# Altium footprint library Bluetooth_Controlled_Led_Matrix_Design.PcbLib: 1 footprints
Each footprint in its own frame and in the unit in brackets; x right, y up, seen from the top. Pads: shape width x height; smd on the part's side, far side on the other; paste and mask are expansions set on the pad; w line width, h text height; cw(c..) or ccw(c..) is an arc to the next point about the centre after c.
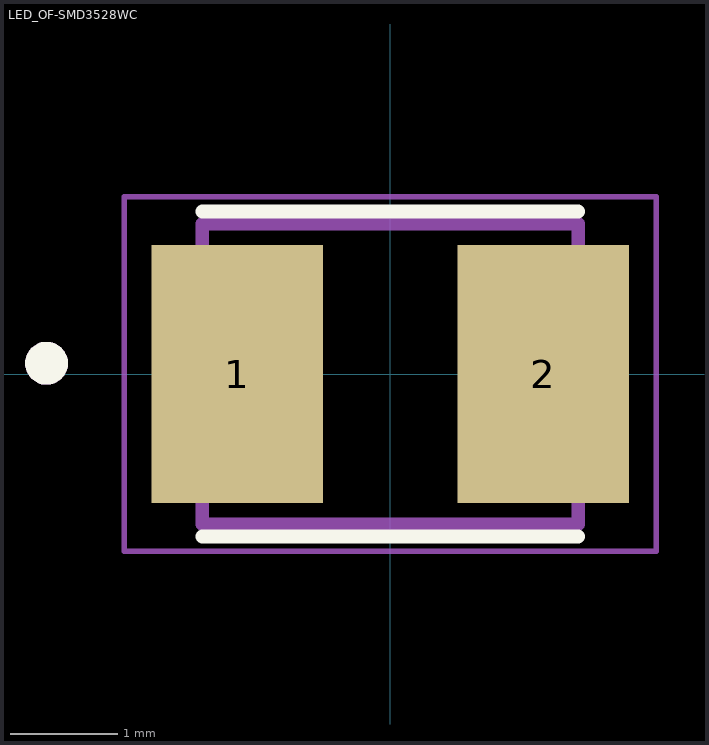
[diagram p0: the footprint, top view; thin cyan lines are the x and y axes]

## LED_OF-SMD3528WC [mm]
pads (2):
  rect 1.6x2.4 smd: 1(-1.425,0) 2(1.425,0)
Top Overlay:
  circle w0.2: c-3.2,0.1 r0.1
  lines w0.127: -1.75,-1.513 1.75,-1.513 ; -1.75,1.513 1.75,1.513
Mechanical 13:
  circle w0.2: c-3.2,0.1 r0.1
  lines w0.127: -1.75,-1.4 1.75,-1.4 1.75,1.4 -1.75,1.4 -1.75,-1.4
Mechanical 15:
  lines w0.05: -2.475,-1.65 2.475,-1.65 2.475,1.65 -2.475,1.65 -2.475,-1.65
3D body "step_temp.STEP": height 1.9, standoff 0, extent -1.75,-1.4 1.75,1.4